# Altium footprint library XT60.PcbLib: 2 footprints
Each footprint in its own frame and in the unit in brackets; x right, y up, seen from the top. Pads: shape width x height; smd on the part's side, far side on the other; paste and mask are expansions set on the pad; w line width, h text height; cw(c..) or ccw(c..) is an arc to the next point about the centre after c.
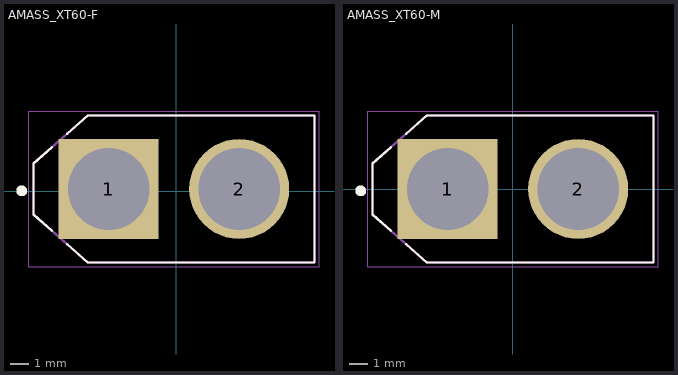
[diagram p0: the footprints below, top view; thin cyan lines are the x and y axes]

## AMASS_XT60-F [mm]
pads (2):
  rect 5.516x5.516 hole 4.5: 1(-3.727,0.127)
  round 5.516 hole 4.5: 2(3.473,0.127)
Top Overlay:
  circle w0.3: c-8.527,0.027 r0.15
  lines w0.127: -6.857,-2.173 -7.877,-1.273 -7.877,1.527 -6.857,2.427 ; -6.007,-2.923 -4.877,-3.923 7.623,-3.923 7.623,4.177 -4.877,4.177 -6.007,3.177
Mechanical 13:
  lines w0.127: -7.877,-1.273 -4.877,-3.923 7.623,-3.923 7.623,4.177 -4.877,4.177 -7.877,1.527 -7.877,-1.273
Mechanical 15:
  lines w0.05: -8.127,-4.173 7.873,-4.173 7.873,4.427 -8.127,4.427 -8.127,-4.173
3D body "XT60 Buchse.stp": height 16.8, standoff -5, extent -7.927,-3.873 7.673,4.127

## AMASS_XT60-M [mm]
pads (2):
  rect 5.516x5.516 hole 4.5: 1(-3.6,0)
  round 5.516 hole 4.5: 2(3.6,0)
Top Overlay:
  circle w0.3: c-8.4,-0.1 r0.15
  lines w0.127: -6.73,-2.3 -7.75,-1.4 -7.75,1.4 -6.73,2.3 ; -5.88,-3.05 -4.75,-4.05 7.75,-4.05 7.75,4.05 -4.75,4.05 -5.88,3.05
Mechanical 13:
  lines w0.127: -7.75,-1.4 -4.75,-4.05 7.75,-4.05 7.75,4.05 -4.75,4.05 -7.75,1.4 -7.75,-1.4
Mechanical 15:
  lines w0.05: -8,-4.3 8,-4.3 8,4.3 -8,4.3 -8,-4.3
3D body "XT60-M--3DModel-STEP-56544.STEP": height 16, standoff -4.5, extent -7.75,-4.05 7.75,4.05